# EAGLE library part BQ24616RGER_BQ24616RGER (library LiPo Charger)
JEITA Guideline Compatible Stand-Alone Synchronous Switch-Mode Li-Ion or Li-Polymer Battery Charger with System Power Selector and Low Iq
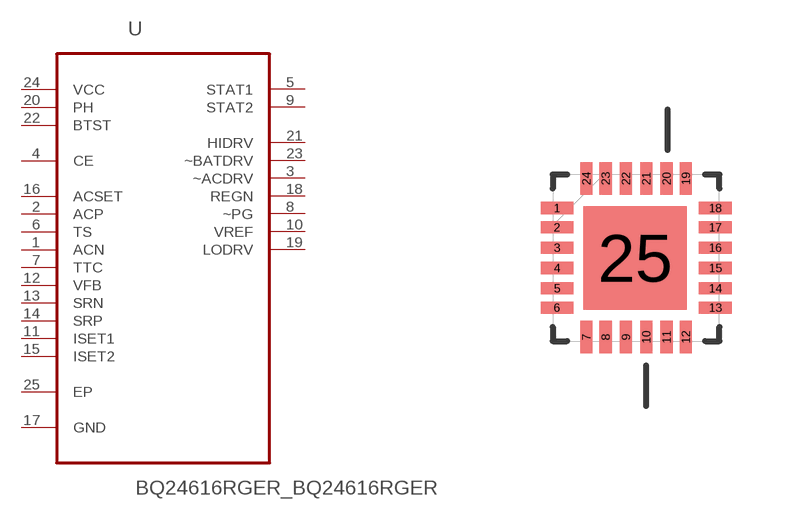
[diagram p0: symbol with the pads of BQ24616RGER_QFN50P400X400X100-25N; footprint BQ24616RGER_QFN50P400X400X100-25N]

Designator prefix U

## BQ24616RGER_BQ24616RGER (DESCRIPTION: JEITA Compatible Stand-Alone Synchronous Switch-Mode Li-Ion or Li-Polymer Battery Charger 24-VQFN -40 to 85; DIGI-KEY_PART_NUMBER: 296-48493-1-ND; DIGI-KEY_PURCHASE_URL: https://www.digikey.com/product-detail/en/texas-instruments/BQ24616RGER/296-48493-1-ND/8567537?utm_source=snapeda&utm_medium=aggregator&utm_campaign=symbol; MF: Texas Instruments; MP: BQ24616RGER; PACKAGE: VQFN-24 Texas Instruments)  [BQ24616RGER_QFN50P400X400X100-25N]
1  ACN  pas
2  ACP  pas
3  ~ACDRV  out
4  CE  in
5  STAT1  out
6  TS  in
7  TTC  in
8  ~PG  out
9  STAT2  out
10  VREF  out
11  ISET1  in
12  VFB
13  SRN
14  SRP
15  ISET2  in
16  ACSET  in
17  GND  pas
18  REGN  out
19  LODRV  out
20  PH  pwr
21  HIDRV  out
22  BTST  pwr
23  ~BATDRV  out
24  VCC  pwr
25  EP  pas

## Footprint BQ24616RGER_QFN50P400X400X100-25N (pad centres in mm)
smd 0.813 x 0.305: 1 -1.981,1.245; 2 -1.981,0.762; 3 -1.981,0.254; 4 -1.981,-0.254; 5 -1.981,-0.762; 6 -1.981,-1.245; 13 1.981,-1.245; 14 1.981,-0.762; 15 1.981,-0.254; 16 1.981,0.254; 17 1.981,0.762; 18 1.981,1.245
smd 0.305 x 0.813: 7 -1.245,-1.981; 8 -0.762,-1.981; 9 -0.254,-1.981; 10 0.254,-1.981; 11 0.762,-1.981; 12 1.245,-1.981; 19 1.245,1.981; 20 0.762,1.981; 21 0.254,1.981; 22 -0.254,1.981; 23 -0.762,1.981; 24 -1.245,1.981
smd 2.591 x 2.591: 25 -0.025,0